# EAGLE library part QSH-020-01-F-D-DP-A-K-TR (library QSH-020-01-F-D-DP-A-K-TR)
Board to Board & Mezzanine Connectors 0.50 mm Q Strip High-Speed Ground Plane Socket Strip Source: Datasheet
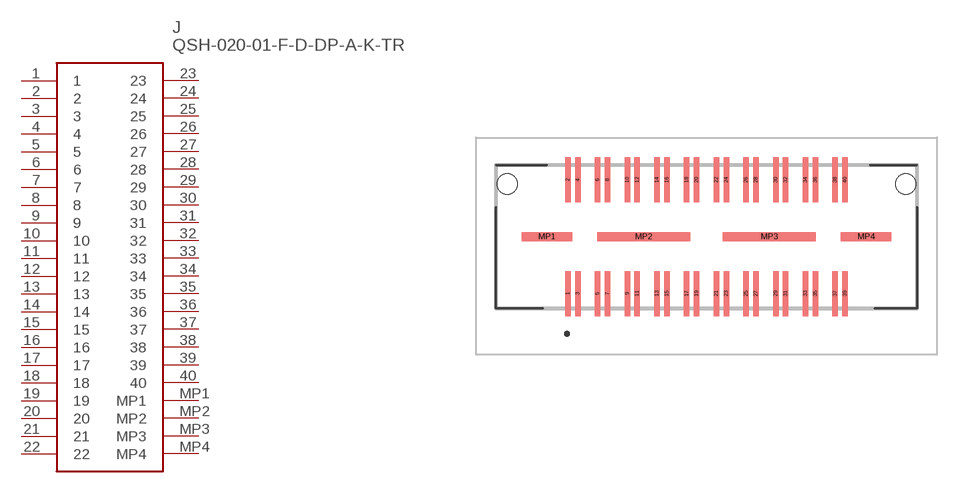
[diagram p0: symbol with the pads of QSH02001FDDPAKTR; footprint QSH02001FDDPAKTR]

Designator prefix J

## QSH-020-01-F-D-DP-A-K-TR (Description: Board to Board & Mezzanine Connectors 0.50 mm Q Strip High-Speed Ground Plane Socket Strip; Height: 3.05mm; Manufacturer_Name: SAMTEC; Manufacturer_Part_Number: QSH-020-01-F-D-DP-A-K-TR; Mouser_Part_Number: 200-QSH02001FDDPAKTR; Mouser_Price-Stock: https://www.mouser.co.uk/ProductDetail/Samtec/QSH-020-01-F-D-DP-A-K-TR?qs=rU5fayqh%252BE3jtEF466DAyA%3D%3D)  [QSH02001FDDPAKTR]
1  1
2  2
3  3
4  4
5  5
6  6
7  7
8  8
9  9
10  10
11  11
12  12
13  13
14  14
15  15
16  16
17  17
18  18
19  19
20  20
21  21
22  22
23  23
24  24
25  25
26  26
27  27
28  28
29  29
30  30
31  31
32  32
33  33
34  34
35  35
36  36
37  37
38  38
39  39
40  40
MP1  MP1
MP2  MP2
MP3  MP3
MP4  MP4

## Footprint QSH02001FDDPAKTR (pad centres in mm)
QSH-020-01-F-D-DP-A-K-TR-1
smd 0.28 x 2.27: 1 -7,-2.87; 2 -7,2.87; 3 -6.5,-2.87; 4 -6.5,2.87; 5 -5.5,-2.87; 6 -5.5,2.87; 7 -5,-2.87; 8 -5,2.87; 9 -4,-2.87; 10 -4,2.87; 11 -3.5,-2.87; 12 -3.5,2.87; 13 -2.5,-2.87; 14 -2.5,2.87; 15 -2,-2.87; 16 -2,2.87; 17 -1,-2.87; 18 -1,2.87; 19 -0.5,-2.87; 20 -0.5,2.87; 21 0.5,-2.87; 22 0.5,2.87; 23 1,-2.87; 24 1,2.87; 25 2,-2.87; 26 2,2.87; 27 2.5,-2.87; 28 2.5,2.87; 29 3.5,-2.87; 30 3.5,2.87; 31 4,-2.87; 32 4,2.87; 33 5,-2.87; 34 5,2.87; 35 5.5,-2.87; 36 5.5,2.87; 37 6.5,-2.87; 38 6.5,2.87; 39 7,-2.87; 40 7,2.87
smd 2.54 x 0.43: MP1 -8.065,0; MP4 8.065,0
smd 4.7 x 0.43: MP2 -3.175,0; MP3 3.175,0
hole 1.02 at -10.066,2.67
hole 1.02 at 10.066,2.67